# Altium integrated library Transformator.IntLib: 74 symbols
Pins are listed as number, name and electrical type; pins without a type are passive.

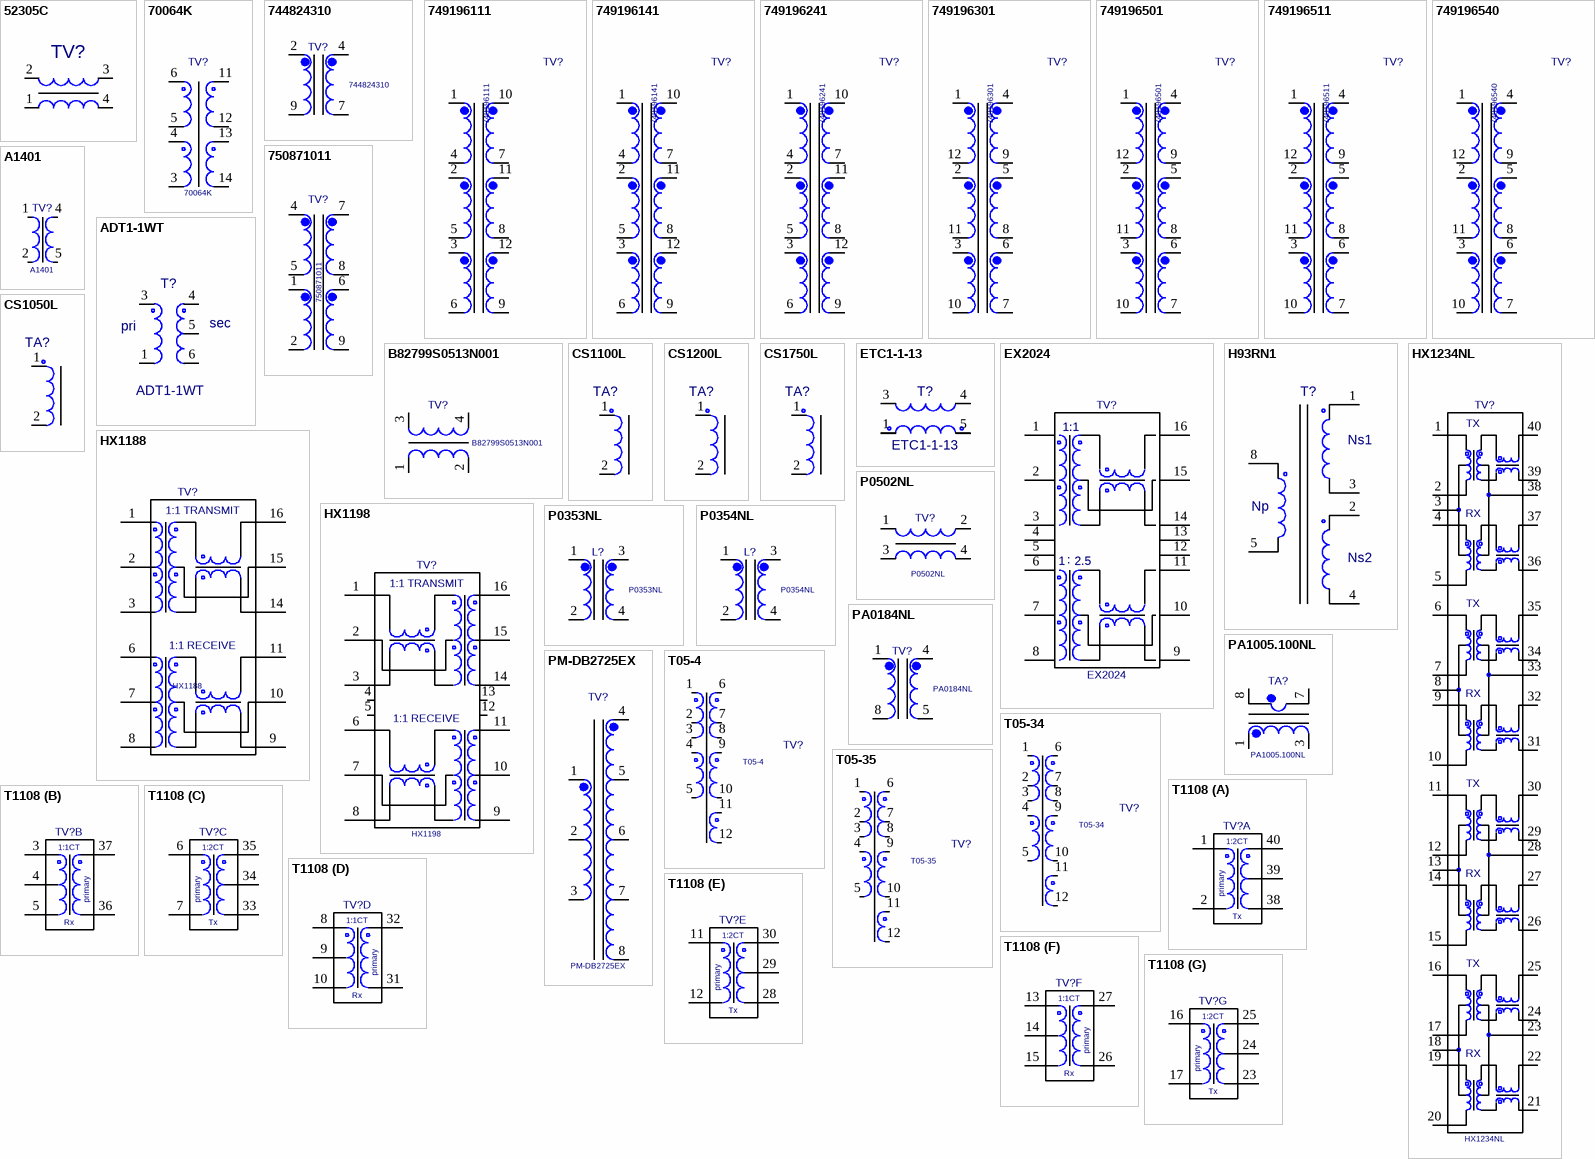
[diagram p0: symbols 52305C to T1108]

## 52305C
designator TV?  (value not drawn)
Value: {Value}
footprint 5200_MURATA
pins: 1, 2, 3, 4

## 70064K
designator TV?
Value: *
footprint 70000_72400_SERIES
pins: 1 hidden, 2 hidden, 3, 4, 5, 6, 7 hidden, 8 hidden, 9 hidden, 10 hidden, 11, 12, 13, 14, 15 hidden, 16 hidden, 17 hidden, 18 hidden, 19 hidden, 20 hidden, 21 hidden, 22 hidden, 23 hidden, 24 hidden, 25 hidden, 26 hidden, 27 hidden, 28 hidden, 29 hidden, 30 hidden, 31 hidden, 32 hidden, 33 hidden, 34 hidden, 35 hidden

## 744824310
designator TV?
Value: *
footprint 744824310_744824310(Primary)
pins: 2, 4, 7, 9
1 alternate drawing of the same symbol

## 749196111
designator TV?
Value: *
footprint ER11-5_SMD(WE)
pins: 1, 2, 3, 4, 5, 6, 7, 8, 9, 10, 11, 12
1 alternate drawing of the same symbol

## 749196141
designator TV?
Value: *
footprint ER11-5_SMD(WE)
pins: 1, 2, 3, 4, 5, 6, 7, 8, 9, 10, 11, 12
1 alternate drawing of the same symbol

## 749196241
designator TV?
Value: *
footprint ER14_5-6_SMD(WE)
pins: 1, 2, 3, 4, 5, 6, 7, 8, 9, 10, 11, 12
1 alternate drawing of the same symbol

## 749196301
designator TV?
Value: *
footprint EFD15_SMD
pins: 1, 2, 3, 4, 5, 6, 7, 8, 9, 10, 11, 12
1 alternate drawing of the same symbol

## 749196501
designator TV?
Value: *
footprint EFD20_SMD
pins: 1, 2, 3, 4, 5, 6, 7, 8, 9, 10, 11, 12
1 alternate drawing of the same symbol

## 749196511
designator TV?
Value: *
footprint EFD20_SMD(WE)
pins: 1, 2, 3, 4, 5, 6, 7, 8, 9, 10, 11, 12
1 alternate drawing of the same symbol

## 749196540
designator TV?
Value: *
footprint EFD20_SMD(WE)
pins: 1, 2, 3, 4, 5, 6, 7, 8, 9, 10, 11, 12
1 alternate drawing of the same symbol

## 750871011
designator TV?
Value: *
footprint EE16_8_5
pins: 1, 2, 3 hidden, 4, 5, 6, 7, 8, 9

## A1401
designator TV?
Value: *
footprint TRS-3-1
pins: 1, 2, 3 hidden, 4, 5, 6 hidden, 7 hidden, 8 hidden

## ADT1-1WT
designator T?
Value: *
footprint CD542
pins: 1, 2 hidden, 3, 4, 5, 6
text: pri; sec

## B82799S0513N001
designator TV?
Value: *
footprint B82799
pins: 1, 2, 3, 4
2 alternate drawings of the same symbol

## CS1050L
designator TA?  (value not drawn)
Author: pcbdesigner.ru; Value: *
footprint CS1XXX_SERIES
pins: 1, 2

## CS1100L
designator TA?  (value not drawn)
Author: pcbdesigner.ru; Value: *
footprint CS1XXX_SERIES
pins: 1, 2

## CS1200L
designator TA?  (value not drawn)
Author: pcbdesigner.ru; Value: *
footprint CS1XXX_SERIES
pins: 1, 2

## CS1750L
designator TA?  (value not drawn)
Author: pcbdesigner.ru; Value: *
footprint CS1XXX_SERIES
pins: 1, 2

## ETC1-1-13
designator T?
Value: {Value}
footprint SM-22
pins: 1, 2 hidden, 3, 4, 5

## EX2024
designator TV?
Value: *
footprint SMT4
pins: 1, 2, 3, 4, 5, 6, 7, 8, 9, 10, 11, 12, 13, 14, 15, 16
text: 1:1; :; 2.5

## H93RN1
designator T?  (value not drawn)
Value: *
footprint H93RN1
pins: 1, 2, 3, 4, 5, 6 hidden, 7 hidden, 8
text: Ns1; Np; Ns2

## HX1188
designator TV?
Value: *
footprint H1102
pins: 1, 2, 3, 4 hidden, 5 hidden, 6, 7, 8, 9, 10, 11, 12 hidden, 13 hidden, 14, 15, 16
1 alternate drawing of the same symbol
text: 1:1 TRANSMIT; 1:1 RECEIVE

## HX1198
designator TV?
Value: *
footprint H1102
pins: 1, 2, 3, 4, 5, 6, 7, 8, 9, 10, 11, 12, 13, 14, 15, 16
text: 1:1 TRANSMIT; 1:1 RECEIVE

## HX1234NL
designator TV?
ComponentHeight: 7.11; Value: *
footprint H1164
pins: 1, 2, 3, 4, 5, 6, 7, 8, 9, 10, 11, 12, 13, 14, 15, 16, 17, 18, 19, 20, 21, 22, 23, 24, 25, 26, 27, 28, 29, 30, 31, 32, 33, 34, 35, 36, 37, 38, 39, 40
text: TX; RX

## P0353NL
designator L?
Value: *
footprint LCCI-50
pins: 1, 2, 3, 4
1 alternate drawing of the same symbol

## P0354NL
designator L?
Value: *
footprint POLECAT
pins: 1, 2, 3, 4
1 alternate drawing of the same symbol

## P0502NL
designator TV?
Value: {Value}
footprint BIG_FOOT_PULSE
pins: 1, 2, 3, 4

## PA0184NL
designator TV?
Value: *
footprint PA0184_PA0184NL(Primary)
pins: 1, 4, 5, 8
1 alternate drawing of the same symbol

## PA1005.100NL
designator TA?
Value: *
footprint PA1005_100
pins: 1, 2 hidden, 3, 4 hidden, 5 hidden, 6 hidden, 7, 8
1 alternate drawing of the same symbol

## PM-DB2725EX
designator TV?
Value: *
footprint PM_DB2725EX
pins: 1, 2, 3, 4, 5, 6, 7, 8

## T05-4
designator TV?
Value: *
footprint T05-4
pins: 1, 2, 3, 4, 5, 6, 7, 8, 9, 10, 11, 12, 13 hidden, 14 hidden
1 alternate drawing of the same symbol

## T05-34
designator TV?
Value: *
footprint T05-4
pins: 1, 2, 3, 4, 5, 6, 7, 8, 9, 10, 11, 12, 13 hidden, 14 hidden
1 alternate drawing of the same symbol

## T05-35
designator TV?
Value: *
footprint T05-4
pins: 1, 2, 3, 4, 5, 6, 7, 8, 9, 10, 11, 12, 13 hidden, 14 hidden
1 alternate drawing of the same symbol

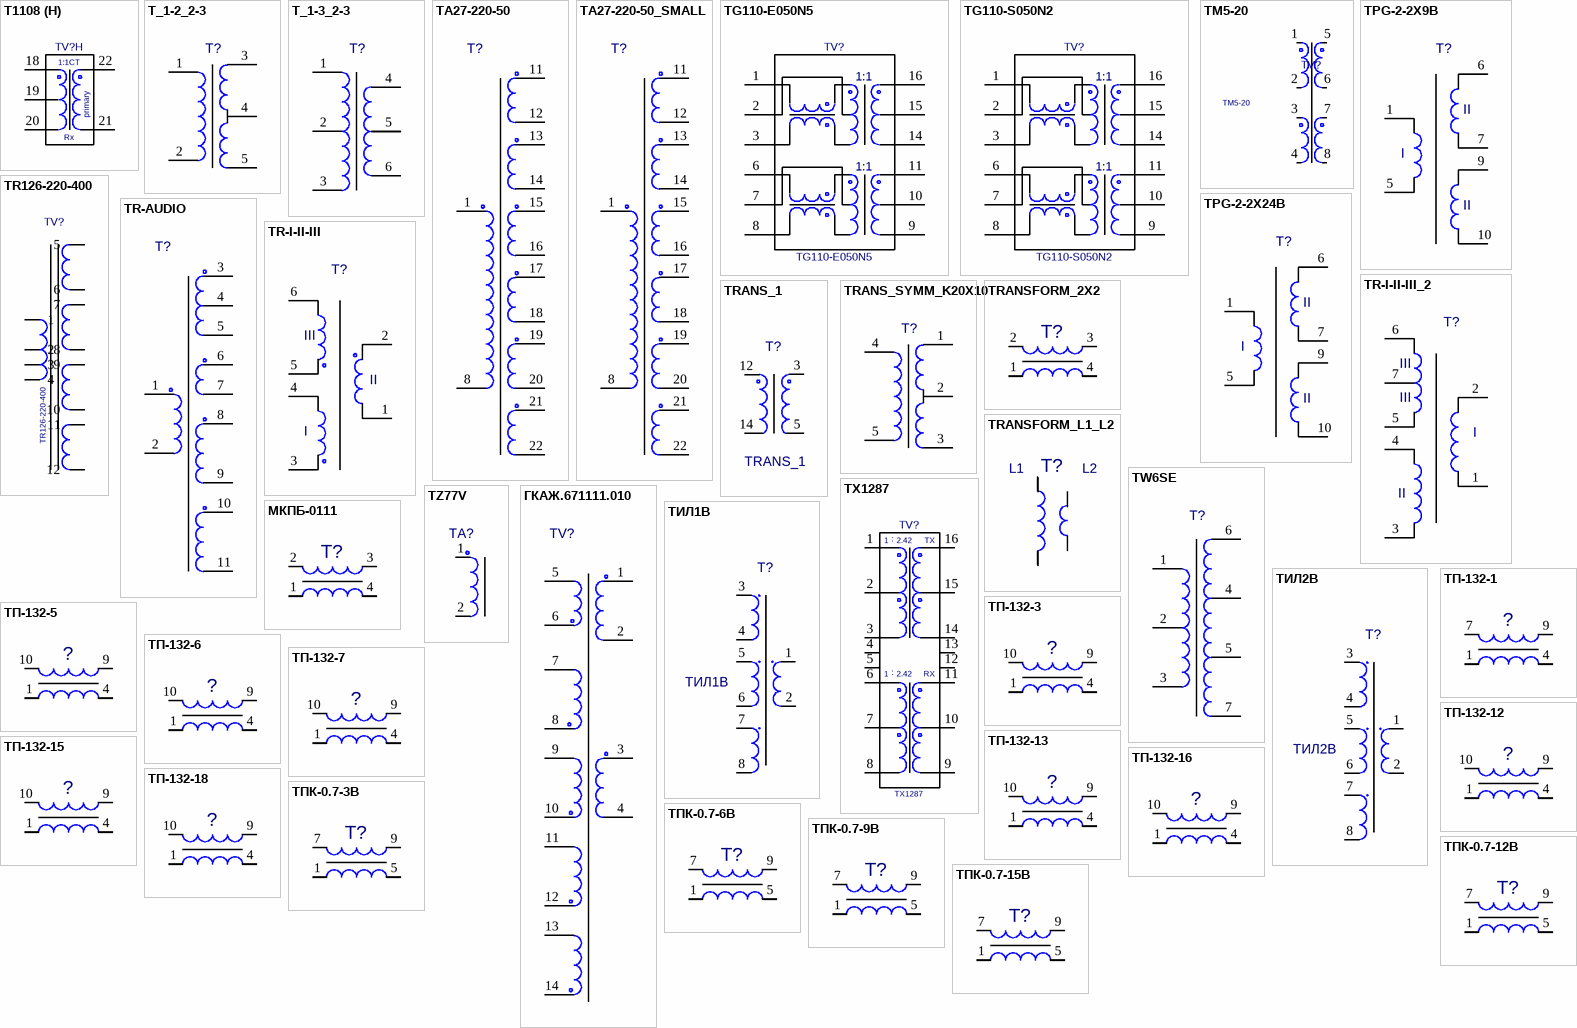
[diagram p1: symbols T1108 to ТПК-0.7-15В]

## T1108
designator TV?  (value not drawn)
Value: *
footprint H1108
part A pins: 1, 2, 38 3, 39 4, 40 5
part B pins: 3 1, 4 2, 5 3, 36 4, 37 5
part C pins: 6 1, 7 2, 33 3, 34 4, 35 5
part D pins: 8 1, 9 2, 10 3, 31 4, 32 5
part E pins: 11 1, 12 2, 28 3, 29 4, 30 5
part F pins: 13 1, 14 2, 15 3, 26 4, 27 5
part G pins: 16 1, 17 2, 23 3, 24 4, 25 5
part H pins: 18 1, 19 2, 20 3, 21 4, 22 5
part A text: 1:2CT; primary; Tx
part B text: 1:1CT; primary; Rx
part C text: 1:2CT; primary; Tx
part D text: 1:1CT; primary; Rx
part E text: 1:2CT; primary; Tx
part F text: 1:1CT; primary; Rx
part G text: 1:2CT; primary; Tx
part H text: 1:1CT; primary; Rx

## T_1-2_2-3
designator T?  (value not drawn)
Author: pcbdesigner.ru; Value: *
footprint T_1-2_2-3
pins: 1 1-1, 2 1-2, 3 2-1, 4 2-2, 5 2-3

## T_1-3_2-3
designator T?  (value not drawn)
Author: pcbdesigner.ru; Value: *
footprint T_1-3_2-3
pins: 1 1-1, 2 1-2, 3 1-3, 4 2-1, 5 2-2, 6 2-3

## TA27-220-50
designator T?  (value not drawn)
Author: pcbdesigner.ru; Value: *
footprint TA27-220-50_TA27-220-50(Primary)
pins: 1, 8, 11, 12, 13, 14, 15, 16, 17, 18, 19, 20, 21, 22

## TA27-220-50_SMALL
designator T?  (value not drawn)
Author: pcbdesigner.ru; Value: *
footprint TA27-220-50_SMALL_TA27-220-50_SMALL(Primary)
pins: 1, 8, 11, 12, 13, 14, 15, 16, 17, 18, 19, 20, 21, 22

## TG110-E050N5
designator TV?
Value: *
footprint TG110E
pins: 1, 2, 3, 4 hidden, 5 hidden, 6, 7, 8, 9, 10, 11, 12 hidden, 13 hidden, 14, 15, 16
text: 1:1

## TG110-S050N2
designator TV?
Value: *
footprint TG110E
pins: 1, 2, 3, 4 hidden, 5 hidden, 6, 7, 8, 9, 10, 11, 12 hidden, 13 hidden, 14, 15, 16
text: 1:1

## TM5-20
designator TV?
Value: *
footprint TM5
pins: 1, 2, 3, 4, 5, 6, 7, 8
1 alternate drawing of the same symbol

## TPG-2-2X9B
designator T?  (value not drawn)
Value: *
footprint ТПК-1
pins: 1, 2 hidden, 3 hidden, 4 hidden, 5, 6, 7, 8 hidden, 9, 10
text: II; I

## TPG-2-2X24B
designator T?  (value not drawn)
Value: *
footprint ТПК-1
pins: 1, 2 hidden, 3 hidden, 4 hidden, 5, 6, 7, 8 hidden, 9, 10
text: II; I

## TR126-220-400
designator TV?
Value: *
footprint TP126-220-400
pins: 1, 2, 3, 4, 5, 6, 7, 8, 9, 10, 11, 12, 13 hidden, 14 hidden, 15 hidden, 16 hidden

## TR-AUDIO
designator T?  (value not drawn)
Author: pcbdesigner.ru; Value: *
footprint TR-AUDIO
pins: 1, 2, 3, 4, 5, 6, 7, 8, 9, 10, 11

## TR-I-II-III
designator T?  (value not drawn)
Value: *
footprint TR-I-II-III
pins: 1, 2, 3, 4, 5, 6
text: III; II; I

## TR-I-II-III_2
designator T?  (value not drawn)
Value: *
footprint TR-I-II-III_2
pins: 1, 2, 3, 4, 5, 6, 7
text: III; I; II

## TRANS_1
designator T?
Value: *
footprint TRANS_1_TRANS_1(Primary)
pins: 3, 5, 12, 14

## TRANS_SYMM_K20X10
designator T?  (value not drawn)
Author: pcbdesigner.ru; Value: *
footprint TRANS_SYMM_K20X10
pins: 1 2-1, 2 2-2, 3 2-3, 4 1-1, 5 1-2

## TRANSFORM_2X2
designator T?  (value not drawn)
Value: {Value}; Author: pcbdesigner.ru
footprint TRANSFORM_2X2
pins: 1, 2, 3, 4

## TRANSFORM_L1_L2
designator T?  (value not drawn)
Value: {Value}; Author: pcbdesigner.ru
footprint TRANSFORM_L1_L2
pins: 1, 2 4, 3 2, 4 3
text: L1; L2

## TW6SE
designator T?  (value not drawn)
Author: pcbdesigner.ru; Value: *
footprint TW6SE
pins: 1, 2, 3, 4, 5, 6, 7

## TX1287
designator TV?
Value: *
footprint BH_PULSE
pins: 1, 2, 3, 4, 5, 6, 7, 8, 9, 10, 11, 12, 13, 14, 15, 16
text: :; 2.42; TX; RX

## TZ77V
designator TA?  (value not drawn)
Author: pcbdesigner.ru; Value: *
footprint TZ77V
pins: 1, 2

## ГКАЖ.671111.010
designator TV?  (value not drawn)
Author: pcbdesigner.ru; Value: *
footprint ГКАЖ.671111.010
pins: 1, 2, 3, 4, 5, 6, 7, 8, 9, 10, 11, 12, 13, 14, 15 hidden

## МКПБ-0111
designator T?  (value not drawn)
Value: {Value}; Author: pcbdesigner.ru
footprint МКПБ-0111
pins: 1, 2, 3, 4

## ТИЛ1В
designator T?
Value: *
footprint TIL1V
pins: 1, 2, 3, 4, 5, 6, 7, 8

## ТИЛ2В
designator T?
Value: *
footprint TIL2V
pins: 1, 2, 3, 4, 5, 6, 7, 8

## ТП-132-1
designator ?  (value not drawn)
Value: {Value}; Author: pcbdesigner.ru
footprint TP-132
pins: 1, 2 hidden, 3 hidden, 4, 5 hidden, 6 hidden, 7 2, 8 hidden, 9 3, 10 hidden

## ТП-132-3
designator ?  (value not drawn)
Value: {Value}; Author: pcbdesigner.ru
footprint TP-132
pins: 1, 2 hidden, 3 hidden, 4, 5 hidden, 6 hidden, 7 hidden, 8 hidden, 9 3, 10 2

## ТП-132-5
designator ?  (value not drawn)
Value: {Value}; Author: pcbdesigner.ru
footprint TP-132
pins: 1, 2 hidden, 3 hidden, 4, 5 hidden, 6 hidden, 7 hidden, 8 hidden, 9 3, 10 2

## ТП-132-6
designator ?  (value not drawn)
Value: {Value}; Author: pcbdesigner.ru
footprint TP-132
pins: 1, 2 hidden, 3 hidden, 4, 5 hidden, 6 hidden, 7 hidden, 8 hidden, 9 3, 10 2

## ТП-132-7
designator ?  (value not drawn)
Value: {Value}; Author: pcbdesigner.ru
footprint TP-132
pins: 1, 2 hidden, 3 hidden, 4, 5 hidden, 6 hidden, 7 hidden, 8 hidden, 9 3, 10 2

## ТП-132-12
designator ?  (value not drawn)
Value: {Value}; Author: pcbdesigner.ru
footprint TP-132
pins: 1, 2 hidden, 3 hidden, 4, 5 hidden, 6 hidden, 7 hidden, 8 hidden, 9 3, 10 2

## ТП-132-13
designator ?  (value not drawn)
Value: {Value}; Author: pcbdesigner.ru
footprint TP-132
pins: 1, 2 hidden, 3 hidden, 4, 5 hidden, 6 hidden, 7 hidden, 8 hidden, 9 3, 10 2

## ТП-132-15
designator ?  (value not drawn)
Value: {Value}; Author: pcbdesigner.ru
footprint TP-132
pins: 1, 2 hidden, 3 hidden, 4, 5 hidden, 6 hidden, 7 hidden, 8 hidden, 9 3, 10 2

## ТП-132-16
designator ?  (value not drawn)
Value: {Value}; Author: pcbdesigner.ru
footprint TP-132
pins: 1, 2 hidden, 3 hidden, 4, 5 hidden, 6 hidden, 7 hidden, 8 hidden, 9 3, 10 2

## ТП-132-18
designator ?  (value not drawn)
Value: {Value}; Author: pcbdesigner.ru
footprint TP-132
pins: 1, 2 hidden, 3 hidden, 4, 5 hidden, 6 hidden, 7 hidden, 8 hidden, 9 3, 10 2

## ТПК-0.7-3В
designator T?  (value not drawn)
Value: {Value}; Author: pcbdesigner.ru
footprint ТПК-0.7
pins: 1, 2 hidden, 3 hidden, 4 hidden, 5 4, 6 hidden, 7 2, 8 hidden, 9 3, 10 hidden

## ТПК-0.7-6В
designator T?  (value not drawn)
Value: {Value}; Author: pcbdesigner.ru
footprint ТПК-0.7
pins: 1, 2 hidden, 3 hidden, 4 hidden, 5 4, 6 hidden, 7 2, 8 hidden, 9 3, 10 hidden

## ТПК-0.7-9В
designator T?  (value not drawn)
Value: {Value}; Author: pcbdesigner.ru
footprint ТПК-0.7
pins: 1, 2 hidden, 3 hidden, 4 hidden, 5 4, 6 hidden, 7 2, 8 hidden, 9 3, 10 hidden

## ТПК-0.7-12В
designator T?  (value not drawn)
Value: {Value}; Author: pcbdesigner.ru
footprint ТПК-0.7
pins: 1, 2 hidden, 3 hidden, 4 hidden, 5 4, 6 hidden, 7 2, 8 hidden, 9 3, 10 hidden

## ТПК-0.7-15В
designator T?  (value not drawn)
Value: {Value}; Author: pcbdesigner.ru
footprint ТПК-0.7
pins: 1, 2 hidden, 3 hidden, 4 hidden, 5 4, 6 hidden, 7 2, 8 hidden, 9 3, 10 hidden

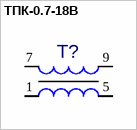
[diagram p2: symbol ТПК-0.7-18В]

## ТПК-0.7-18В
designator T?  (value not drawn)
Value: {Value}; Author: pcbdesigner.ru
footprint ТПК-0.7
pins: 1, 2 hidden, 3 hidden, 4 hidden, 5 4, 6 hidden, 7 2, 8 hidden, 9 3, 10 hidden